# EAGLE library part 25Z6 (library radiotubes)
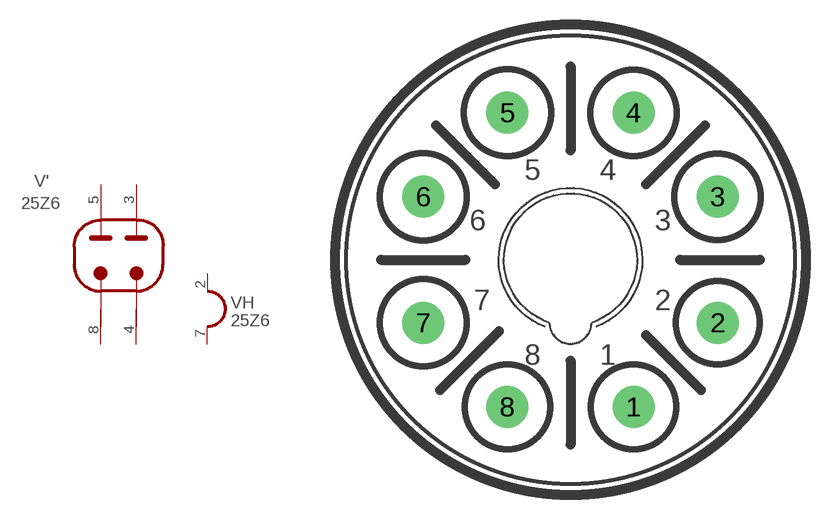
[diagram p134: symbol with the pads of OKTAL; footprint OKTAL]

Designator prefix V; gates '=EAA H=HEATER_1

## 25Z6  [OKTAL]
2  H:H1  pas
3  ':AII  pas
4  ':KII  pas
5  ':AI  pas
7  H:H2  pas
8  ':KI  pas

## Footprint OKTAL (pad centres in mm)
drill 1.27 pad 2.54: 1 3.81,-8.89; 2 8.89,-3.81; 3 8.89,3.81; 4 3.81,8.89; 5 -3.81,8.89; 6 -8.89,3.81; 7 -8.89,-3.81; 8 -3.81,-8.89